# EAGLE library part 2199230-8 (library 2199230-8)
AMP - TE CONNECTIVITY - 2199230-8 - CONNECTOR, CARD EDGE, RCPT, 67POS, 2ROW Source: Datasheet <http://www.farnell.com/datasheets/1795031.pdf>
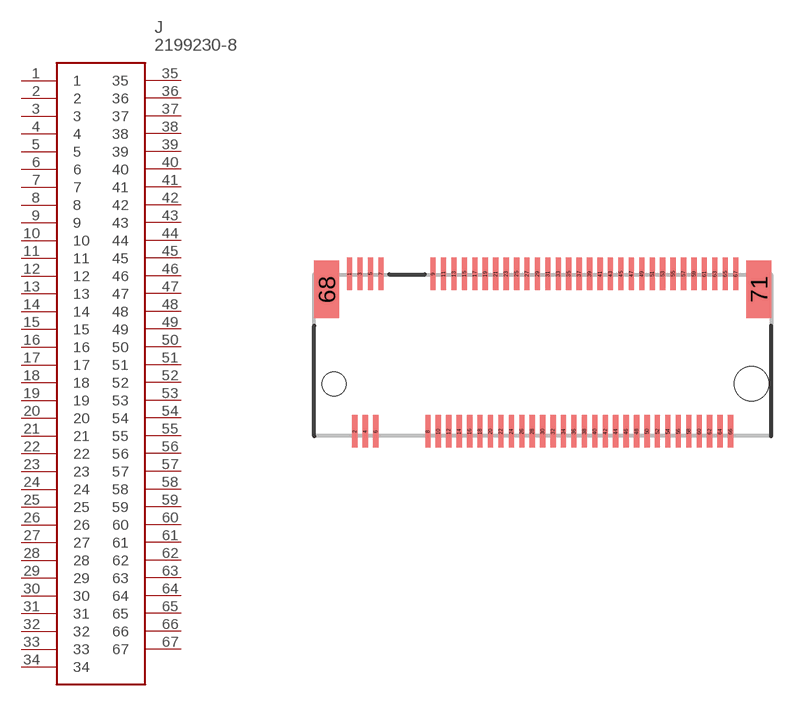
[diagram p0: symbol with the pads of 2199230-8; footprint 2199230-8]

Designator prefix J

## 2199230-8 (Arrow_Part_Number: 2199230-8; Arrow_Price-Stock: https://www.arrow.com/en/products/2199230-8/te-connectivity; Description: AMP - TE CONNECTIVITY - 2199230-8 - CONNECTOR, CARD EDGE, RCPT, 67POS, 2ROW; Height: mm; Manufacturer_Name: TE Connectivity; Manufacturer_Part_Number: 2199230-8; Mouser_Part_Number: 571-2199230-8; Mouser_Price-Stock: https://www.mouser.co.uk/ProductDetail/TE-Connectivity/2199230-8?qs=EQCnRgr4b6G98GiyFqe7jQ%3D%3D)  [2199230-8]
1  1
2  2
3  3
4  4
5  5
6  6
7  7
8  8
9  9
10  10
11  11
12  12
13  13
14  14
15  15
16  16
17  17
18  18
19  19
20  20
21  21
22  22
23  23
24  24
25  25
26  26
27  27
28  28
29  29
30  30
31  31
32  32
33  33
34  34
35  35
36  36
37  37
38  38
39  39
40  40
41  41
42  42
43  43
44  44
45  45
46  46
47  47
48  48
49  49
50  50
51  51
52  52
53  53
54  54
55  55
56  56
57  57
58  58
59  59
60  60
61  61
62  62
63  63
64  64
65  65
66  66
67  67

## Footprint 2199230-8 (pad centres in mm)
2199230-8
smd 0.25 x 1.55: 1 -9.25,0; 2 -9,-7.55; 3 -8.75,0; 4 -8.5,-7.55; 5 -8.25,0; 6 -8,-7.55; 7 -7.75,0; 8 -5.5,-7.55; 9 -5.25,0; 10 -5,-7.55; 11 -4.75,0; 12 -4.5,-7.55; 13 -4.25,0; 14 -4,-7.55; 15 -3.75,0; 16 -3.5,-7.55; 17 -3.25,0; 18 -3,-7.55; 19 -2.75,0; 20 -2.5,-7.55; 21 -2.25,0; 22 -2,-7.55; 23 -1.75,0; 24 -1.5,-7.55; 25 -1.25,0; 26 -1,-7.55; 27 -0.75,0; 28 -0.5,-7.55; 29 -0.25,0; 30 0,-7.55; 31 0.25,0; 32 0.5,-7.55; 33 0.75,0; 34 1,-7.55; 35 1.25,0; 36 1.5,-7.55; 37 1.75,0; 38 2,-7.55; 39 2.25,0; 40 2.5,-7.55; 41 2.75,0; 42 3,-7.55; 43 3.25,0; 44 3.5,-7.55; 45 3.75,0; 46 4,-7.55; 47 4.25,0; 48 4.5,-7.55; 49 4.75,0; 50 5,-7.55; 51 5.25,0; 52 5.5,-7.55; 53 5.75,0; 54 6,-7.55; 55 6.25,0; 56 6.5,-7.55; 57 6.75,0; 58 7,-7.55; 59 7.25,0; 60 7.5,-7.55; 61 7.75,0; 62 8,-7.55; 63 8.25,0; 64 8.5,-7.55; 65 8.75,0; 66 9,-7.55; 67 9.25,0
smd 1.2 x 2.75: 68 -10.35,-0.75; 71 10.35,-0.75
hole 1.15 at -10,-5.275
hole 1.65 at 10,-5.275